# Altium schematic symbol library ADN8834ACPZ-R2.SchLib: 2 symbols
Pins are listed as number, name and electrical type; pins without a type are passive.

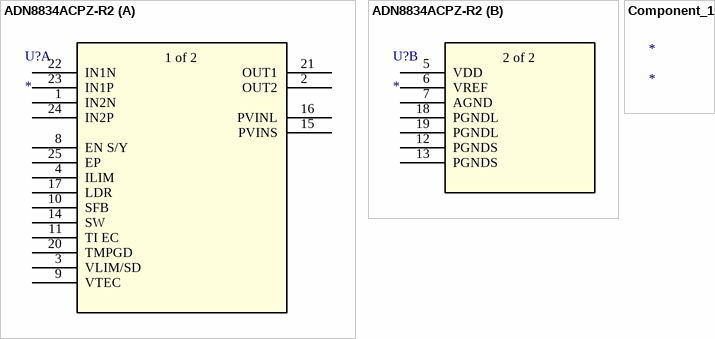
[diagram p0: symbols ADN8834ACPZ-R2 to Component_1]

## ADN8834ACPZ-R2
designator U?
No Description Available; Mfr_Name: Analog Devices Inc; RefDes: RefDes; Type: Type
footprint CP_24_7_ADI
part A pins: 1 IN2N, 2 OUT2, 3 VLIM/SD, 4 ILIM, 8 EN S/Y, 9 VTEC, 10 SFB, 11 TI EC, 14 SW, 15 PVINS, 16 PVINL, 17 LDR, 20 TMPGD, 21 OUT1, 22 IN1N, 23 IN1P, 24 IN2P, 25 EP
part B pins: 5 VDD, 6 VREF, 7 AGND, 12 PGNDS, 13 PGNDS, 18 PGNDL, 19 PGNDL
part A text: 1 of 2
part B text: 2 of 2

## Component_1
designator *